# EAGLE library part RELAY-HJR-4102-L-05V (library Discrete)
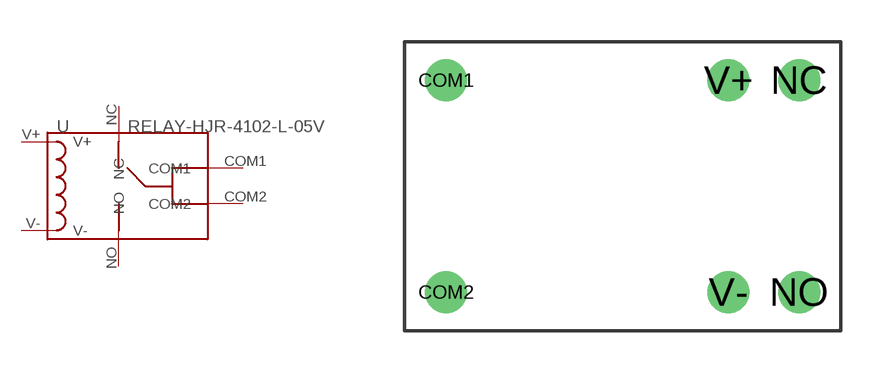
[diagram p14: symbol with the pads of RELAY-6P; footprint RELAY-6P]

Designator prefix U

## RELAY-HJR-4102-L-05V  [RELAY-6P]
COM1  COM1
COM2  COM2
NC  NC
NO  NO
V+  V+
V-  V-

## Footprint RELAY-6P (pad centres in mm)
drill 1: COM1 -6.35,3.81; COM2 -6.35,-3.81; NC 6.35,3.81; NO 6.35,-3.81; V+ 3.81,3.81; V- 3.81,-3.81